# EAGLE library part TEXAS_INSTRUMENTS-LED_DRIVER-TLC59116_PW_28 (library Module_ICs)
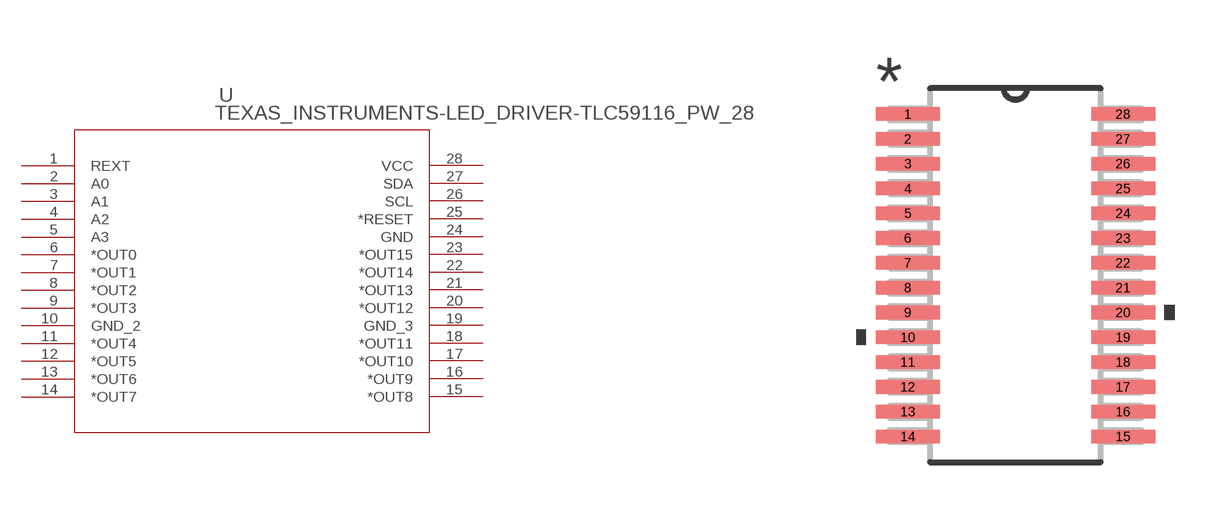
[diagram p17: symbol with the pads of TEXAS_INSTRUMENTS-LED_DRIVER-TLC59116_PW_28; footprint TEXAS_INSTRUMENTS-LED_DRIVER-TLC59116_PW_28]

Designator prefix U

## TEXAS_INSTRUMENTS-LED_DRIVER-TLC59116_PW_28 (DATASHEETURL: httpwww.ti.comlitgpnTLC59116; FAMILY_NAME: LED DRIVER; GENERIC_PART_NUMBER: TLC59116; INDUSTRY_STD_PKG_TYPE: TSSOP; MANUFACTURER: Texas Instruments; MANUFACTURER_PART_NUMBER: tlc59116_pw_28; PACKAGE_DESIGNATOR: PW; PIN_COUNT: 28; VENDOR: Texas Instruments)  [TEXAS_INSTRUMENTS-LED_DRIVER-TLC59116_PW_28]
1  REXT  in
2  A0  in
3  A1  in
4  A2  in
5  A3  in
6  *OUT0  out
7  *OUT1  out
8  *OUT2  out
9  *OUT3  out
10  GND_2  pwr
11  *OUT4  out
12  *OUT5  out
13  *OUT6  out
14  *OUT7  out
15  *OUT8  out
16  *OUT9  out
17  *OUT10  out
18  *OUT11  out
19  GND_3  pwr
20  *OUT12  out
21  *OUT13  out
22  *OUT14  out
23  *OUT15  out
24  GND  pwr
25  *RESET  in
26  SCL  in
27  SDA
28  VCC  pwr

## Footprint TEXAS_INSTRUMENTS-LED_DRIVER-TLC59116_PW_28 (pad centres in mm)
smd 1.676 x 0.356: 1 -2.819,4.225; 2 -2.819,3.575; 3 -2.819,2.925; 4 -2.819,2.275; 5 -2.819,1.625; 6 -2.819,0.975; 7 -2.819,0.325; 8 -2.819,-0.325; 9 -2.819,-0.975; 10 -2.819,-1.625; 11 -2.819,-2.275; 12 -2.819,-2.925; 13 -2.819,-3.575; 14 -2.819,-4.225; 15 2.819,-4.225; 16 2.819,-3.575; 17 2.819,-2.925; 18 2.819,-2.275; 19 2.819,-1.625; 20 2.819,-0.975; 21 2.819,-0.325; 22 2.819,0.325; 23 2.819,0.975; 24 2.819,1.625; 25 2.819,2.275; 26 2.819,2.925; 27 2.819,3.575; 28 2.819,4.225